# Altium schematic symbol library Schlib1.SchLib: 2 symbols
Pins are listed as number, name and electrical type; pins without a type are passive.

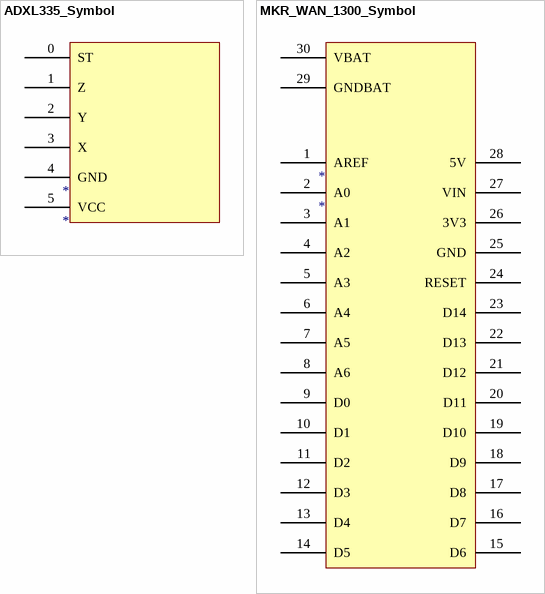
[diagram p0: symbols ADXL335_Symbol to MKR_WAN_1300_Symbol]

## ADXL335_Symbol
designator *
footprint ADXL335_HEADERS
pins: 0 ST, 1 Z, 2 Y, 3 X, 4 GND, 5 VCC

## MKR_WAN_1300_Symbol
designator *
footprint MKR_WAN_1300_Headers
pins: 1 AREF, 2 A0, 3 A1, 4 A2, 5 A3, 6 A4, 7 A5, 8 A6, 9 D0, 10 D1, 11 D2, 12 D3, 13 D4, 14 D5, 15 D6, 16 D7, 17 D8, 18 D9, 19 D10, 20 D11, 21 D12, 22 D13, 23 D14, 24 RESET, 25 GND, 26 3V3, 27 VIN, 28 5V, 29 GNDBAT, 30 VBAT